# Altium schematic symbol library Inolux_LEDs.SchLib: 1 symbol
Pins are listed as number, name and electrical type; pins without a type are passive.

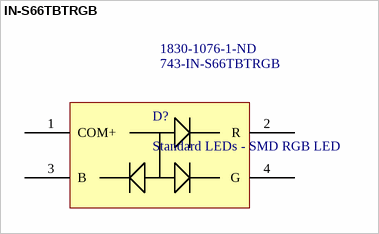
[diagram p0: symbol IN-S66TBTRGB]

## IN-S66TBTRGB
designator D?, comment Standard LEDs - SMD RGB LED  Supplier Part Number 1: 743-IN-S66TBTRGB  Supplier Part Number 2: 1830-1076-1-ND
LED Tri-Color Blue/Green/Red Automotive 4-Pin Chip 0606 T/R; Manufacturer: Inolux; Manufacturer Part Number: IN-S66TBTRGB; Color: Blue,Green,Red; Lens Color: Clear; Lens Style: Flat; Luminous Intensity: 115mcd; Forward Voltage: 3.2V; Test Current: 20mA; Viewing Angle: 120°; Dominant Wavelength: 467nm; Lens Size: 1.15mm; Supplier 1: Mouser; RoHS: No; Category: LEDs; Stock 1: 9505; Pricing 1: 1=0.45, 10=0.282, 50=0.282, 100=0.162, 1000=0.117, 4000=0.116, 8000=0.098, 10000=0.098, 24000=0.095, 48000=0.091, 100000=0.088 (USD); Mount: Surface Mount; Case/Package: 0606; Case Code (Imperial): 0606; Case Code (Metric): 1616; Packaging: Cut Tape; Lens Transparency: Clear; Series: IN-S66TBTRGB; Length: 1.6mm; Width: 1.5mm; Height: 0.55mm; ComponentLink1URL: http://www.inolux-corp.com/datasheet/SMDLED/RGB%20Top%20View/IN-S66TBTRGB_V1.0.pdf?src-supplier=Digikey; ComponentLink1Description: http://www.inolux-corp.com/datasheet/SMDLED/RGB%20Top%20View/IN-S66TBTRGB_V1.0.pdf?src-supplier=Digikey; Supplier 2: Digikey
footprint IN-S66TBTRGB
pins: 1 COM+ (power) "Positive Supply", 2 R "Red Anode", 3 B "Blue Anode", 4 G "Green Anode"